# EAGLE library part SN74LVC2G17 (library XBOX)
DUAL SCHMITT-TRIGGER BUFFER
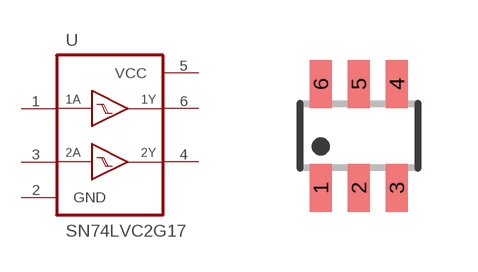
[diagram p2: symbol with the pads of SOT23-6; footprint SOT23-6]

Designator prefix U

## SN74LVC2G17DBV  [SOT23-6]
1  1A  in
2  GND  pwr
3  2A  in
4  2Y  out
5  VCC  pwr
6  1Y  out

## Footprint SOT23-6 (pad centres in mm)
SOT-23 - DBV 0.95 mm pitch
smd 0.55 x 1.2: 1 -0.95,-1.3; 2 0,-1.3; 3 0.95,-1.3; 4 0.95,1.3; 5 0,1.3; 6 -0.95,1.3